# EAGLE library part ST-USB-001L (library Connector)
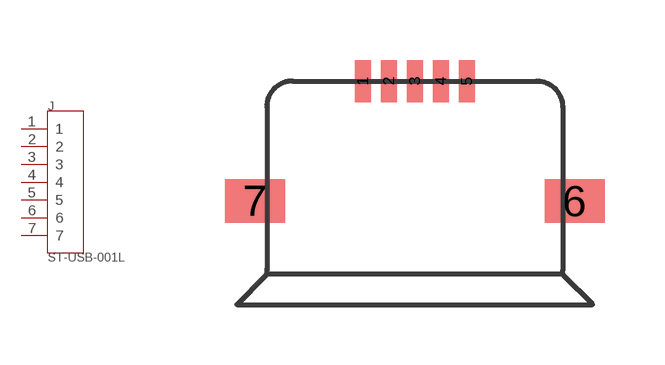
[diagram p28: symbol with the pads of USB-5+2P-SMD-L7.4XW5.6XH2.6MM; footprint USB-5+2P-SMD-L7.4XW5.6XH2.6MM]

Designator prefix J

## ST-USB-001L-320010012  [USB-5+2P-SMD-L7.4XW5.6XH2.6MM]
1  1
2  2
3  3
4  4
5  5
6  6
7  7

## Footprint USB-5+2P-SMD-L7.4XW5.6XH2.6MM (pad centres in mm)
smd 0.4 x 1.05: 1 -1.3,0; 2 -0.65,0; 3 0,0; 4 0.65,0; 5 1.3,0
smd 1.5 x 1.1: 6 4,-3; 7 -4,-3